# Altium schematic symbol library RMCF1210FT1R00.SchLib: 2 symbols
Pins are listed as number, name and electrical type; pins without a type are passive.

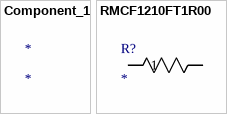
[diagram p0: symbols Component_1 to RMCF1210FT1R00]

## Component_1
designator *

## RMCF1210FT1R00
designator R?
No Description Available; Mfr_Name: Stackpole International
footprint STA_RMCF1210_STP
pins: 1, 2